# Altium schematic symbol library TC2030-MCP.SchLib: 1 symbol
Pins are listed as number, name and electrical type; pins without a type are passive.

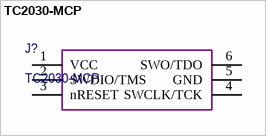
[diagram p0: symbol TC2030-MCP]

## TC2030-MCP
designator J?
pins: 1 VCC, 2 SWDIO/TMS, 3 nRESET, 4 SWCLK/TCK, 5 GND, 6 SWO/TDO